# EAGLE library part V2DIP2 (library ChapR-Custom)
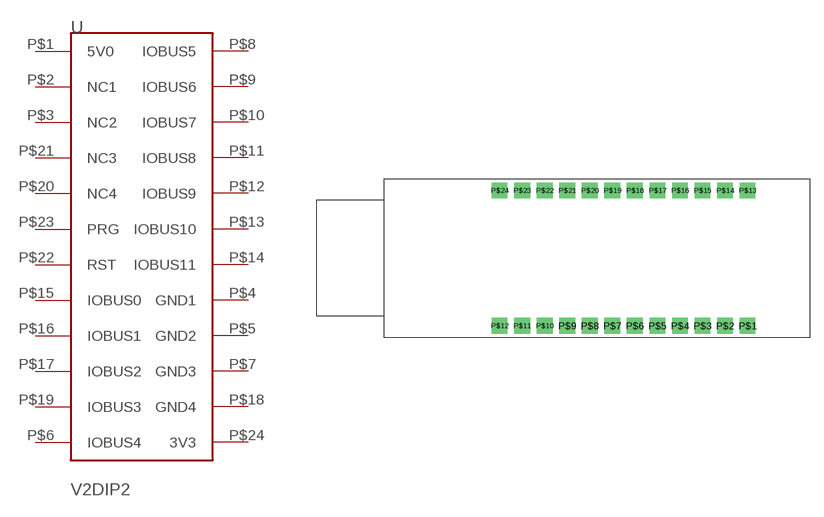
[diagram p3: symbol with the pads of V2DIP2; footprint V2DIP2]

Designator prefix -

## V2DIP2  [V2DIP2]
P$1  5V0
P$2  NC1
P$3  NC2
P$4  GND1
P$5  GND2
P$6  IOBUS4
P$7  GND3
P$8  IOBUS5
P$9  IOBUS6
P$10  IOBUS7
P$11  IOBUS8
P$12  IOBUS9
P$13  IOBUS10
P$14  IOBUS11
P$15  IOBUS0
P$16  IOBUS1
P$17  IOBUS2
P$18  GND4
P$19  IOBUS3
P$20  NC4
P$21  NC3
P$22  RST
P$23  PRG
P$24  3V3

## Footprint V2DIP2 (pad centres in mm)
drill 1.1 pad 1.778 square: P$1 40.97,1.27; P$2 38.43,1.27; P$3 35.89,1.27; P$4 33.35,1.27; P$5 30.81,1.27; P$6 28.27,1.27; P$7 25.73,1.27; P$8 23.19,1.27; P$9 20.65,1.27; P$10 18.11,1.27; P$11 15.57,1.27; P$12 13.03,1.27; P$13 40.97,16.51; P$14 38.43,16.51; P$15 35.89,16.51; P$16 33.35,16.51; P$17 30.81,16.51; P$18 28.27,16.51; P$19 25.73,16.51; P$20 23.19,16.51; P$21 20.65,16.51; P$22 18.11,16.51; P$23 15.57,16.51; P$24 13.03,16.51